# EAGLE library part TE1734592 (library badge)
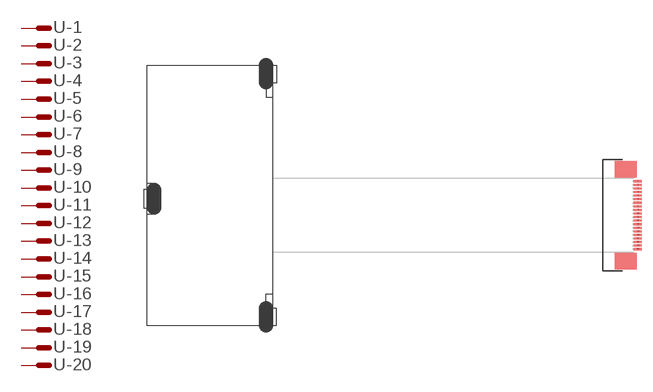
[diagram p0: symbol with the pads of TE1723492; footprint TE1723492]

Designator prefix -; gates -1=PIN -2=PIN -3=PIN -4=PIN -5=PIN -6=PIN -7=PIN -8=PIN -9=PIN -10=PIN -11=PIN -12=PIN -13=PIN -14=PIN -15=PIN -16=PIN -17=PIN -18=PIN -19=PIN -20=PIN

## TE1734592  [TE1723492]
1  -1:1  pas
2  -2:1  pas
3  -3:1  pas
4  -4:1  pas
5  -5:1  pas
6  -6:1  pas
7  -7:1  pas
8  -8:1  pas
9  -9:1  pas
10  -10:1  pas
11  -11:1  pas
12  -12:1  pas
13  -13:1  pas
14  -14:1  pas
15  -15:1  pas
16  -16:1  pas
17  -17:1  pas
18  -18:1  pas
19  -19:1  pas
20  -20:1  pas

## Footprint TE1723492 (pad centres in mm)
smd 1.1 x 0.29: 1 2.25,4.75; 2 2.25,4.25; 3 2.25,3.75; 4 2.25,3.25; 5 2.25,2.75; 6 2.25,2.25; 7 2.25,1.75; 8 2.25,1.25; 9 2.25,0.75; 10 2.25,0.25; 11 2.25,-0.25; 12 2.25,-0.75; 13 2.25,-1.25; 14 2.25,-1.75; 15 2.25,-2.25; 16 2.25,-2.75; 17 2.25,-3.25; 18 2.25,-3.75; 19 2.25,-4.25; 20 2.25,-4.75